# EAGLE library part KL20_48 (library KW2)
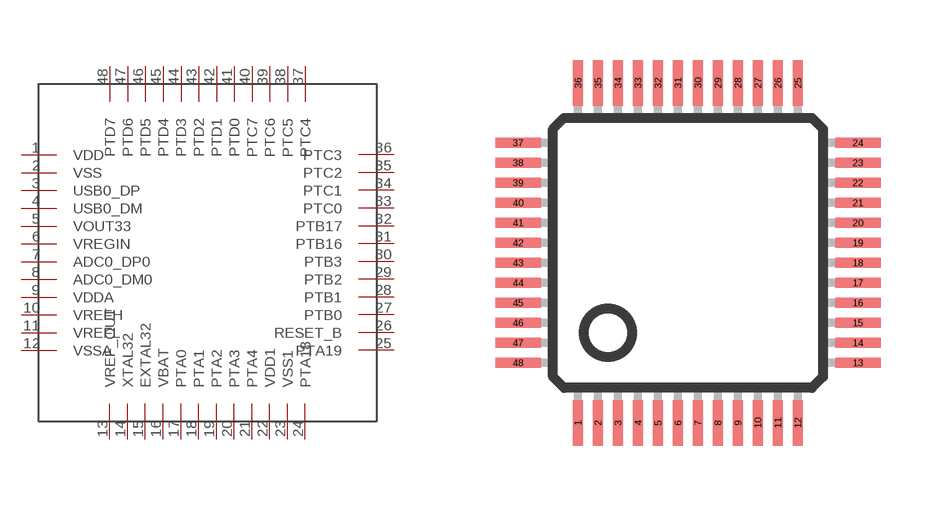
[diagram p23: symbol with the pads of LQFP-48; footprint LQFP-48]

Designator prefix -

## KL20_48  [LQFP-48]
1  VDD
2  VSS
3  USB0_DP
4  USB0_DM
5  VOUT33
6  VREGIN
7  ADC0_DP0
8  ADC0_DM0
9  VDDA
10  VREFH
11  VREFL
12  VSSA
13  VREF_OUT
14  XTAL32
15  EXTAL32
16  VBAT
17  PTA0
18  PTA1
19  PTA2
20  PTA3
21  PTA4
22  VDD1
23  VSS1
24  PTA18
25  PTA19
26  RESET_B
27  PTB0
28  PTB1
29  PTB2
30  PTB3
31  PTB16
32  PTB17
33  PTC0
34  PTC1
35  PTC2
36  PTC3
37  PTC4
38  PTC5
39  PTC6
40  PTC7
41  PTD0
42  PTD1
43  PTD2
44  PTD3
45  PTD4
46  PTD5
47  PTD6
48  PTD7

## Footprint LQFP-48 (pad centres in mm)
smd 0.254 x 1.143: 1 -2.75,-4.25; 2 -2.25,-4.25; 3 -1.75,-4.25; 4 -1.25,-4.25; 5 -0.75,-4.25; 6 -0.25,-4.25; 7 0.25,-4.25; 8 0.75,-4.25; 9 1.25,-4.25; 10 1.75,-4.25; 11 2.25,-4.25; 12 2.75,-4.25; 25 2.75,4.25; 26 2.25,4.25; 27 1.75,4.25; 28 1.25,4.25; 29 0.75,4.25; 30 0.25,4.25; 31 -0.25,4.25; 32 -0.75,4.25; 33 -1.25,4.25; 34 -1.75,4.25; 35 -2.25,4.25; 36 -2.75,4.25
smd 1.143 x 0.254: 13 4.25,-2.75; 14 4.25,-2.25; 15 4.25,-1.75; 16 4.25,-1.25; 17 4.25,-0.75; 18 4.25,-0.25; 19 4.25,0.25; 20 4.25,0.75; 21 4.25,1.25; 22 4.25,1.75; 23 4.25,2.25; 24 4.25,2.75; 37 -4.25,2.75; 38 -4.25,2.25; 39 -4.25,1.75; 40 -4.25,1.25; 41 -4.25,0.75; 42 -4.25,0.25; 43 -4.25,-0.25; 44 -4.25,-0.75; 45 -4.25,-1.25; 46 -4.25,-1.75; 47 -4.25,-2.25; 48 -4.25,-2.75